# Altium schematic symbol library Componentes_custom.SchLib: 19 symbols
Pins are listed as number, name and electrical type; pins without a type are passive.

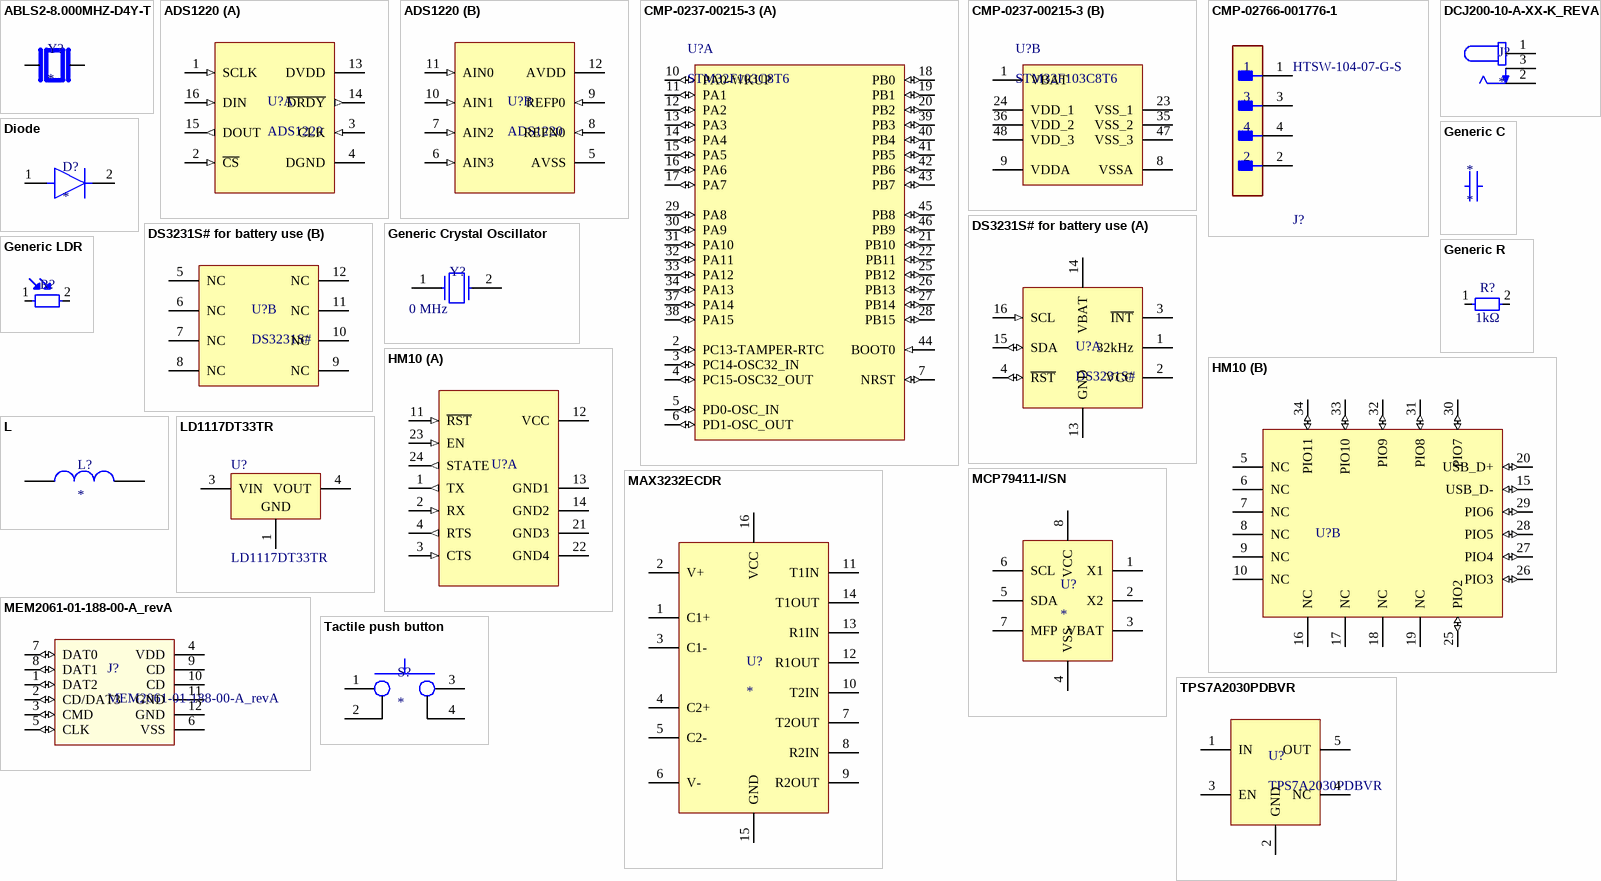
[diagram p0: symbols ABLS2-8.000MHZ-D4Y-T to TPS7A2030PDBVR]

## ABLS2-8.000MHZ-D4Y-T
designator Y?
HC/49US (AT49) LOW PROFILE SURFACE MOUNT MICROPROCESSOR CRYSTAL; MF: Abracon; MP: ABLS2-8.000MHZ-D4Y-T; Digi-Key_Part_Number: 535-9864-2-ND; Purchase-URL: https://pricing.snapeda.com/search/part/ABLS2-8.000MHZ-D4Y-T/?ref=eda; Check_prices: https://www.snapeda.com/parts/ABLS2-8.000MHZ-D4Y-T/Abracon+LLC/view-part/?ref=eda; Value: *; SnapEDA_Link: https://www.snapeda.com/parts/ABLS2-8.000MHZ-D4Y-T/Abracon+LLC/view-part/?ref=snap; Package: HC49/US Abracon
footprint XTAL_ABLS2-8.000MHZ-D4Y-T
pins: 1, 2

## ADS1220
designator U?
ADS1220 4-Channel, 2-kSPS, Low-Power, 24-Bit ADC with Integrated PGA and Reference
footprint TSSOP-16
part A pins: 1 SCLK (in), 2 ~{CS} (in), 3 CLK (in), 4 DGND (power), 13 DVDD (power), 14 ~{DRDY} (out), 15 DOUT (out), 16 DIN (in)
part B pins: 5 AVSS (power), 6 AIN3 (in), 7 AIN2 (in), 8 REFN0 (in), 9 REFP0 (in), 10 AIN1 (in), 11 AIN0 (in), 12 AVDD (power)

## CMP-0237-00215-3
designator U?, comment STM32F103C8T6
ARM Cortex-M3 32-bit MCU, 64 KB Flash, 20 KB Internal RAM, 37 I/Os, 48-pin LQFP, -40 to 85 degC, Tray; Supply Voltage(Vcc) min (V): 2; Internal RAM Size (kB): 20; FLASH Size (Prog) (kB): 64; A/D Converter: 2x12-bit (10 Channel); I/Os (High Current): 37; Operating Frequency(F) (Processor speed) (MHz): 72; Core: ARM Cortex-M3; ComponentLink3Description: Package Specification; Mounting Technology: Surface Mount; PartNumber: STM32F103C8T6; PackageReference: LQFP48; Packing: Tray; ComponentLink3URL: http://www.st.com/st-web-ui/static/active/en/resource/technical/document/datasheet/DM00058181.pdf; DatasheetVersion: Rev. 16; ComponentLink1URL: http://www.st.com/web/en/home.html; PackageVersion: Rev. 6, 06/2013; ComponentLink2URL: http://www.st.com/st-web-ui/static/active/en/resource/technical/document/datasheet/CD00161566.pdf; ComponentLink1Description: Manufacturer URL; ComponentLink2Description: Datasheet; PackageDescription: 48-Pin Low Profile Quad Flat Package, 7 x 7 mm Body, 0.5 mm Pitch
footprint STM-LQFP48_L (QFP, 48-Leads, Body 7x7mm, Pitch 0.5mm, IPC High Density)
part A pins: 2 PC13-TAMPER-RTC (io) "PC13-TAMPER-RTC/PC13/TAMPER-RTC", 3 PC14-OSC32_IN (io) "PC14-OSC32_IN/PC14/OSC32_IN", 4 PC15-OSC32_OUT (io) "PC15-OSC32_OUT/PC15/OSC32_OUT", 5 PD0-OSC_IN (io) "PD0/OSC_IN", 6 PD1-OSC_OUT (io) "PD1/OSC_OUT", 7 NRST (io), 10 PA0-WKUP (io) "PA0-WKUP/PA0/WKUP/USART2_CTS/ADC12_IN0/TIM2_CH1_ETR", 11 PA1 (io) "PA1/USART2_RTS/ADC12_IN1/TIM2_CH2", 12 PA2 (io) "PA2/USART2_TX/ADC12_IN2/TIM2_CH3", 13 PA3 (io) "PA3/USART2_RX/ADC12_IN3/TIM2_CH4", 14 PA4 (io) "PA4/SPI1_NSS/USART2_CK/ADC12_IN4", 15 PA5 (io) "PA5/SPI1_SCK/ADC12_IN5", 16 PA6 (io) "PA6/SPI1_MISO/ADC12_IN6/TIM3_CH1/TIM1_BKIN", 17 PA7 (io) "PA7/SPI1_MOSI/ADC12_IN7/TIM3_CH2/TIM1_CH1N", 18 PB0 (io) "PB0/ADC12_IN8/TIM3_CH3/TIM1_CH2N", 19 PB1 (io) "PB1/ADC12_IN9/TIM3_CH4/TIM1_CH3N", 20 PB2 (io) "PB2/BOOT1", 21 PB10 (io) "PB10/I2C2_SCL/USART3_TX/TIM2_CH3", 22 PB11 (io) "PB11/I2C2_SDA/USART3_RX/TIM2_CH4", 25 PB12 (io) "PB12/SPI2_NSS/I2C2_SMBAl/USART3_CK/TIM1_BKIN", 26 PB13 (io) "PB13/SPI2_SCK/USART3_CTS/TIM1_CH1N", 27 PB14 (io) "PB14/SPI2_MISO/USART3_RTS/TIM1_CH2N", 28 PB15 (io) "PB15/SPI2_MOSI/TIM1_CH3N", 29 PA8 (io) "PA8/USART1_CK/TIM1_CH1/MCO", 30 PA9 (io) "PA9/USART1_TX/TIM1_CH2", 31 PA10 (io) "PA10/USART1_RX/TIM1_CH3", 32 PA11 (io) "PA11/USART1_CTS/CANRX/USBDM/TIM1_CH4", 33 PA12 (io) "PA12/USART1_RTS/CANTX/USBDP/TIM1_ETR", 34 PA13 (io) "PA13/JTMS/SWDIO", 37 PA14 (io) "PA14/JTCK/SWCLK", 38 PA15 (io) "PA15/JTDI/TIM2_CH1_ETR/SPI1_NSS", 39 PB3 (io) "PB3/JTDO/TIM2_CH2/TRACESWO/SPI1_SCK", 40 PB4 (io) "PB4/NJTRST/TIM3_CH1/SPI1_MISO", 41 PB5 (io) "PB5/I2C1_SMBAI/TIM3_CH2/SPI1_MOSI", 42 PB6 (io) "PB6/I2C1_SCL/TIM4_CH1/USART1_TX", 43 PB7 (io) "PB7/I2C1_SDA/TIM4_CH2/USART1_RX", 44 BOOT0 (in), 45 PB8 (io) "PB8/TIM4_CH3/I2C1_SCL/CANRX", 46 PB9 (io) "PB9/TIM4_CH4/I2C1_SDA/CANTX"
part B pins: 1 VBAT (power), 8 VSSA (power), 9 VDDA (power), 23 VSS_1 (power), 24 VDD_1 (power), 35 VSS_2 (power), 36 VDD_2 (power), 47 VSS_3 (power), 48 VDD_3 (power)

## CMP-02766-001776-1
designator J?, comment HTSW-104-07-G-S
CONN HEADER VERT 4POS 2.54MM; Gender: Male; Number of Contacts: 4; Packaging: Bulk; RoHS Compliant: Yes; Number of Rows: 1; Mount: Through Hole; Contact Material: Bronze; Series: HTSW; Radiation Hardening: No; Pitch: 2.54mm; Reach SVHC Compliant: Yes; Contact Plating: Gold; Termination: Through Hole
footprint FP-HTSW-104-07-G-S-MFG
pins: 1, 2, 3, 4

## DCJ200-10-A-XX-K_REVA
designator J?
Power Barrel Connector Jack 2.05mm ID (0.081), 5.50mm OD (0.217) Through Hole, Right Angle; MF: Global Connector Technology; MP: DCJ200-10-A-K1-K; SnapEDA_Link: https://www.snapeda.com/parts/DCJ200-10-A-K1-K/Global+Connector+Technology/view-part/?ref=snap; Package: None; Value: *; Check_prices: https://www.snapeda.com/parts/DCJ200-10-A-K1-K/Global+Connector+Technology/view-part/?ref=eda
footprint GCT_DCJ200-10-A-XX-K_REVA
pins: 1, 2, 3

## Diode
designator D?
Simbolo genérico de diodo.
footprint SMA_DO-214AC (This is a packaging that's usual for SMD diodes.)
pins: 1 A, 2 K

## DS3231S# for battery use
designator U?, comment DS3231S#
IC RTC CLK/CALENDAR I2C 16SOIC. Symbol used with battery as the main supply voltage.
footprint W16-H2_M (SOIC, 16-Leads, Body 10.3x7.5mm, Pitch 1.27mm, IPC Low Density)
footprint W16-H2_L (SOIC, 16-Leads, Body 10.3x7.5mm, Pitch 1.27mm, IPC High Density)
footprint W16-H2_N (SOIC, 16-Leads, Body 10.3x7.5mm, Pitch 1.27mm, IPC Medium Density)
part A pins: 1 32kHz (oc), 2 VCC (power), 3 ~{INT} (oc), 4 ~{RST} (io), 13 GND (power), 14 VBAT (power), 15 SDA (io), 16 SCL (in)
part B pins: 5 NC, 6 NC, 7 NC, 8 NC, 9 NC, 10 NC, 11 NC, 12 NC

## Generic C
designator *

## Generic Crystal Oscillator
designator Y?  value 0 MHz  (hidden comment: *)
Generic Crystal Oscillator on SMD package
footprint XTAL_HC49/4HSMX
pins: 1, 2

## Generic LDR
designator R?, comment Simbolo de LDR genérico  (value not drawn)
Light Resistance: 10kΩ; Dark Resistance: 1MΩ; Spectral Response Range: 400-700nm; Diameter: 5mm
footprint Generic LDR (Footprint de un LDR genérico THT.)
pins: 1, 2

## Generic R
designator R?, comment value 1kΩ  (hidden comment: Simbolo de resistencia genérica)
footprint PACKAGE_0805
pins: 1, 2

## HM10
designator U?, comment HM10 BLE Module  (value not drawn)
Modulo BLE HM10 con castellated pads.
footprint HM10_FOOTPRINT (26.9X13X2.2_BOARD)
part A pins: 1 TX (out), 2 RX (in), 3 CTS (in), 4 RTS (out), 11 ~{RST} (in), 12 VCC (power), 13 GND1 (power), 14 GND2 (power), 21 GND3 (power), 22 GND4 (power), 23 EN (in), 24 STATE (out)
part B pins: 5 NC, 6 NC, 7 NC, 8 NC, 9 NC, 10 NC, 15 USB_D- (io), 16 NC, 17 NC, 18 NC, 19 NC, 20 USB_D+ (io), 25 PIO2 (io), 26 PIO3 (io), 27 PIO4 (io), 28 PIO5 (io), 29 PIO6 (io), 30 PIO7 (io), 31 PIO8 (io), 32 PIO9 (io), 33 PIO10 (io), 34 PIO11 (io)

## L
designator L?
Inductor genérico; Manufacturer: *; Manufacturer part number: *; Tolerance: *; Package size: *; Voltage rating: *
footprint SRR5228A (Footprint para inductores de la serie SRR5228A)
footprint LPS8045B_Series_Power_inductor
pins: 1, 2

## LD1117DT33TR
designator U?
Fixed Low Drop Positive Voltage Regulator, 3.3V, 3-Pin DPAK, Tape and Reel; ComponentLink1Description: Manufacturer URL; PackageVersion: 2011; PackageReference: TO-252; ComponentLink2Description: Datasheet; ComponentLink1URL: http://www.st.com; DatasheetVersion: 1/11/2011; PackageDescription: 3-Pin Transistor Outline Package 2.28 mm Pitch, 9.7 mm Lead Span (DPAK); ComponentLink2URL: http://www.st.com/internet/com/TECHNICAL_RESOURCES/TECHNICAL_LITERATURE/DATASHEET/CD00000544.pdf
footprint TO-252_N (D-PAK, 4-Leads, Body 6.1x6.5mm, Pitch 2.28mm, Lead Span 9.7mm, IPC Medium Density)
pins: 1 GND (power), 3 VIN (power), 4 VOUT (power)

## MAX3232ECDR
designator U?
footprint D0016A_M (SOIC, 16-Leads, Body 10x4mm, Pitch 1.27mm, IPC Low Density)
pins: 1 C1+, 2 V+, 3 C1-, 4 C2+, 5 C2-, 6 V-, 7 T2OUT, 8 R2IN, 9 R2OUT, 10 T2IN, 11 T1IN, 12 R1OUT, 13 R1IN, 14 T1OUT, 15 GND, 16 VCC

## MCP79411-I/SN
designator U?
Real time clock from Microchip
footprint SOIC8-RTC (Usado en RTC)
pins: 1 X1, 2 X2, 3 VBAT, 4 VSS, 5 SDA, 6 SCL, 7 MFP, 8 VCC

## MEM2061-01-188-00-A_revA
designator J?
Micro SD Memory Card Connector, 1.88mm Profile SMT,Push Push, with normally closed switch
footprint MEM2061-01-188-00-A_revA (Micro SD Memory Card Connector, 1.88mm Profile SMT,Push Push, with normally closed switch)
pins: 1 DAT2 (io), 2 CD/DAT3 (io), 3 CMD (io), 4 VDD (power), 5 CLK (io), 6 VSS (power), 7 DAT0 (io), 8 DAT1 (io), 9 CD, 10 CD, 11 GND (power), 12 GND (power)

## Tactile push button
designator S?
footprint FP-B3W-1000-MFG (Tactile switch 6x6mm THT)
pins: 1, 2, 3, 4

## TPS7A2030PDBVR
designator U?
IC REG LINEAR 3.3V 300MA SOT23-5
footprint SOT-23 Texas
pins: 1 IN, 2 GND, 3 EN, 4 NC, 5 OUT